# Altium footprint library LPON_OTHER.PcbLib: 107 footprints (part 3 of 7)
Each footprint in its own frame and in the unit in brackets; x right, y up, seen from the top. Pads: shape width x height; smd on the part's side, far side on the other; paste and mask are expansions set on the pad; w line width, h text height; cw(c..) or ccw(c..) is an arc to the next point about the centre after c.
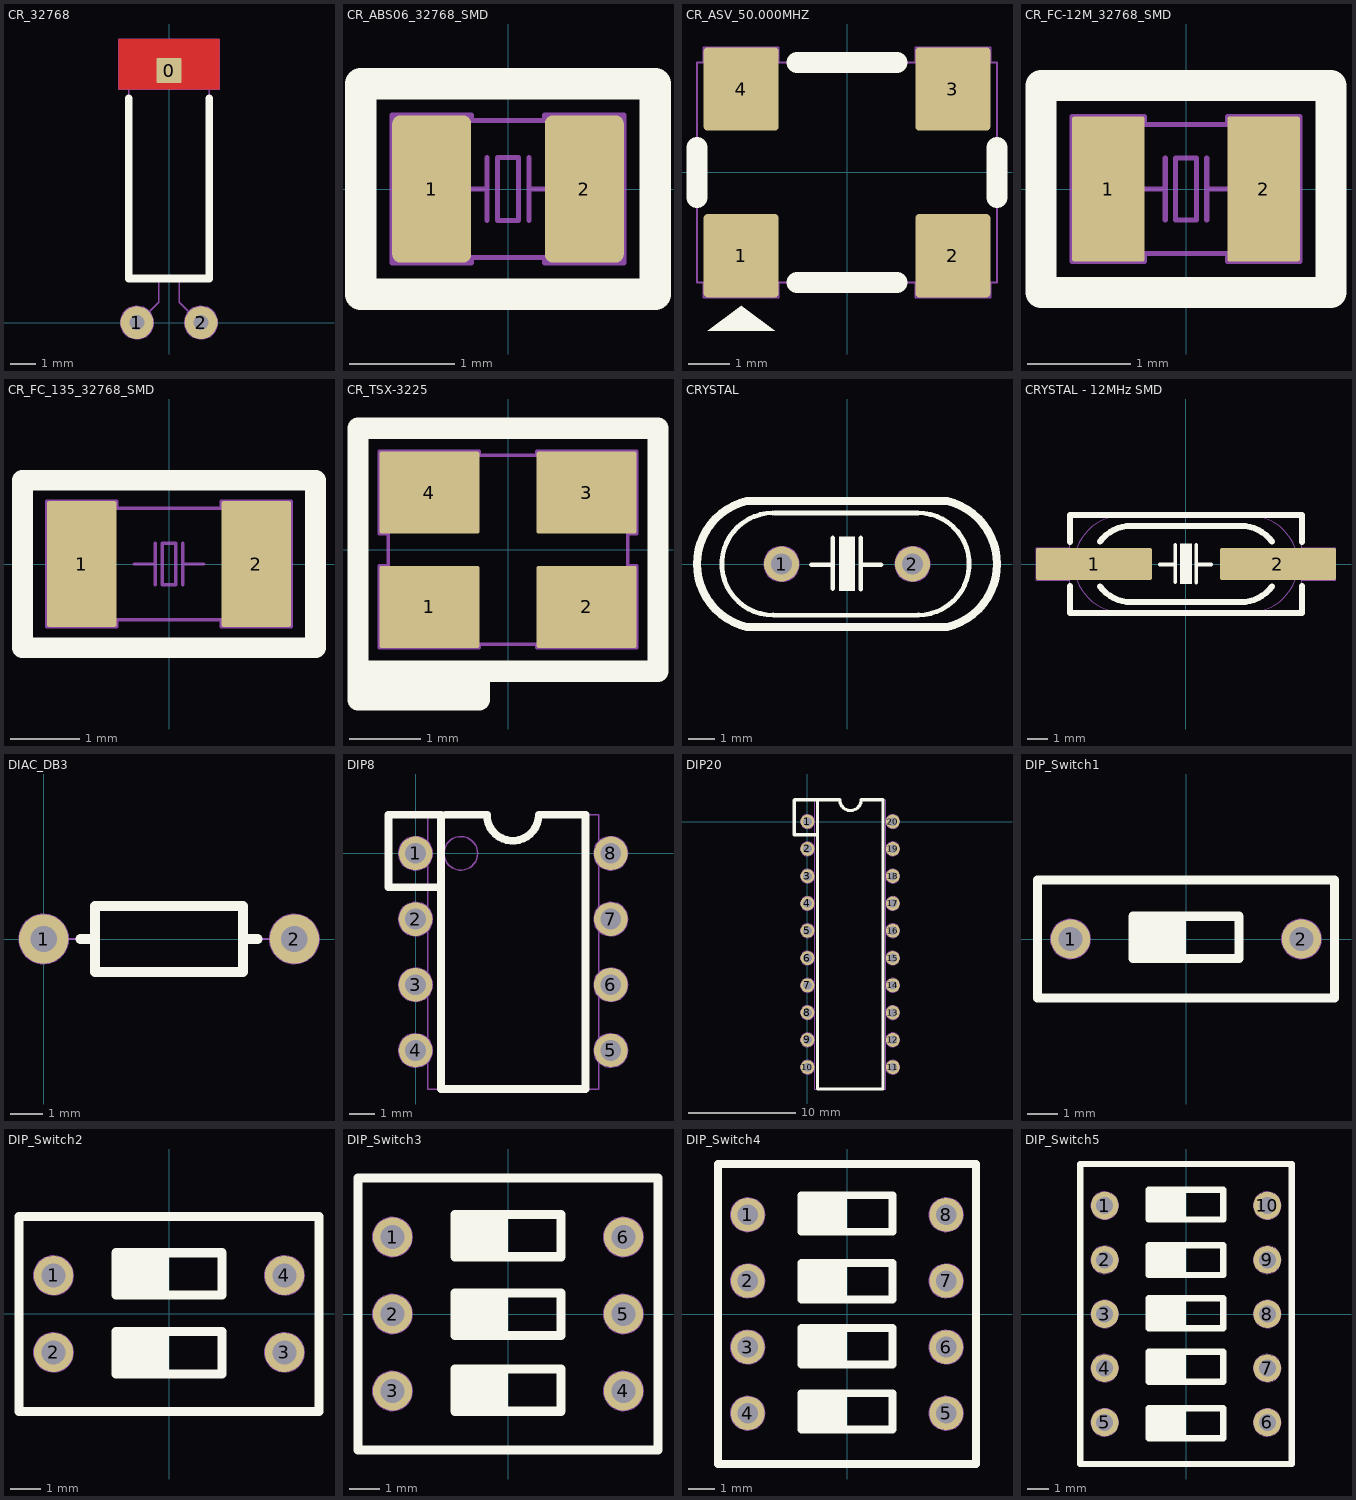
[diagram p2: the footprints below, top view; thin cyan lines are the x and y axes]

## CR_32768 [mm] "32.768 KHz LOW FREQUENCY CYLINDRICALWATCH CRYSTAL"
height 1.5
pads (3):
  rrect10% 1x1 smd mask+0.1: 0(0,10)
  round 1.3 hole 0.6 mask+0.1: 1(-1.27,0) 2(1.27,0)
Top Layer:
  region: -2,9.25 -2,11.25 2,11.25 2,9.25
Top Overlay:
  lines w0.3: -1.59,8.9 -1.59,1.75 1.59,1.75 1.59,8.9
Mechanical 1:
  circle w0.05: c-1.27,0 r0.65
  circle w0.05: c1.27,0 r0.65
  lines w0.05: -0.775,0.425 -0.4,0.8 -0.4,1.75 ; 0.4,1.75 0.4,0.8 0.775,0.425 ; -2,9.25 -2,11.25 2,11.25 2,9.25 -2,9.25 ; -1.59,1.75 1.59,1.75 1.59,10.25 -1.59,10.25 -1.59,1.75
3D body "User Library-Crystal TH.step": height 3.2, standoff 0, extent -1.725,-0.6 1.725,10.175

## CR_ABS06_32768_SMD [mm] "ABS06 32.768 KHz LOW FREQUENCY CYLINDRICALWATCH CRYSTAL"
height 0.6
pads (2):
  rrect20% 0.75x1.4 smd mask+0.1: 1(-0.725,0) 2(0.725,0)
Top Overlay:
  lines w0.3: -1.4,-1 -1.4,1 1.4,1 1.4,-1 -1.4,-1
Mechanical 1:
  lines w0.05: -0.35,-0.65 -0.35,-0.7 -1.1,-0.7 -1.1,0.7 -0.35,0.7 -0.35,0.65 ; -0.35,0 -0.2,0 ; -0.2,-0.3 -0.2,0.3 ; 0.2,-0.3 0.2,0.3 ; 0.2,0 0.35,0 ; 0.35,-0.65 0.35,-0.7 1.1,-0.7 1.1,0.7 0.35,0.7 0.35,0.65 ; 0.1,-0.3 -0.1,-0.3 -0.1,0.3 0.1,0.3 ; 0.1,-0.3 0.1,0.3 ; 0.1,-0.3 0.1,0.3 ; -1.075,-0.65 1.075,-0.65 1.075,0.65 -1.075,0.65 -1.075,-0.65
  text "Y?" at 0,0 h1

## CR_ASV_50.000MHZ [mm] "50MHz XO (Standard) HCMOS Oscillator 3.3V Enable/Disable 4-SMD, No Lead"
height 1.8
pads (4):
  rrect10% 1.8x2 smd: 1(-2.54,-2) 2(2.54,-2) 3(2.54,2) 4(-2.54,2)
Top Overlay:
  region: -2.54,-3.2 -3.34,-3.8 -1.74,-3.8
  region: -2.64,-3.2
  region: -2.54,-3.3
  lines w0.5: -3.6,-0.6 -3.6,0.6 ; -1.2,-2.64 1.2,-2.64 ; -1.2,2.64 1.2,2.64 ; 3.6,-0.6 3.6,0.6
Mechanical 2:
  region: -3,-2.3 -3.06,-2.3 -3.17,-2.254 -3.254,-2.17 -3.3,-2.06 -3.3,-2 -3.3,-1.94 -3.254,-1.83 -3.17,-1.746 -3.06,-1.7 -3,-1.7 -2.94,-1.7 -2.83,-1.746 -2.746,-1.83 -2.7,-1.94 -2.7,-2 -2.7,-2.06 -2.746,-2.17 -2.83,-2.254 -2.94,-2.3
  lines w0.05: -3.439,-2.641 -3.439,-3 -2.688,-3 -1.641,-3 -1.641,-2.644 ; -3.439,2.644 -3.439,3 -2.392,3 -1.641,3 -1.641,2.641 ; 1.641,-2.641 1.641,-3 2.392,-3 3.439,-3 3.439,-2.644 ; 1.641,2.644 1.641,3 2.688,3 3.439,3 3.439,2.641 ; -3.6,-2.64 -3.6,2.64 3.6,2.64 3.6,-2.64 -3.6,-2.64
  text "EN" at -2.392,-2 h1
  text "GND" at 0.5,-2 h1
  text "OUT" at 1,1.5 h1
  text "VDD" at -3,1.5 h1
3D body "User Library-ASV_series _ABRACON.step": height 1.8, standoff 0, extent -3.5,-2.5 3.5,2.58

## CR_FC-12M_32768_SMD [mm] "FC-12M 32.768 KHz"
height 0.6
pads (2):
  rrect5% 0.7x1.4 smd mask+0.1: 1(-0.75,0) 2(0.75,0)
Top Overlay:
  lines w0.3: -1.4,-1 -1.4,1 1.4,1 1.4,-1 -1.4,-1
Mechanical 1:
  lines w0.05: -0.5,0 -0.2,0 ; -0.4,-0.625 -0.4,-0.7 -1.1,-0.7 -1.1,0.7 -0.4,0.7 -0.4,0.625 ; -0.2,-0.3 -0.2,0.3 ; 0.2,-0.3 0.2,0.3 ; 0.2,0 0.5,0 ; 0.4,-0.625 0.4,-0.7 1.1,-0.7 1.1,0.7 0.4,0.7 0.4,0.625 ; 0.1,-0.3 -0.1,-0.3 -0.1,0.3 0.1,0.3 ; 0.1,-0.3 0.1,0.3 ; 0.1,-0.3 0.1,0.3 ; -1.05,-0.625 1.05,-0.625 1.05,0.625 -1.05,0.625 -1.05,-0.625
  text "Y?" at 0,0 h1

## CR_FC_135_32768_SMD [mm] "FC-135 32KHz-100KHz"
height 0.9
pads (2):
  rrect5% 1x1.8 smd mask+0.1: 1(-1.25,0) 2(1.25,0)
Top Overlay:
  lines w0.3: -2.1,-1.2 2.1,-1.2 2.1,1.2 -2.1,1.2 -2.1,-1.2
Mechanical 1:
  lines w0.05: -0.75,-0.8 -0.75,-0.9 -1.75,-0.9 -1.75,0.9 -0.75,0.9 -0.75,0.8 ; -0.5,0 -0.2,0 ; -0.2,-0.3 -0.2,0.3 ; 0.2,-0.3 0.2,0.3 ; 0.2,0 0.5,0 ; 0.75,-0.8 0.75,-0.9 1.75,-0.9 1.75,0.9 0.75,0.9 0.75,0.8 ; 0.1,-0.3 -0.1,-0.3 -0.1,0.3 0.1,0.3 ; 0.1,-0.3 0.1,0.3 ; 0.1,-0.3 0.1,0.3 ; -1.65,-0.8 -1.65,0.8 1.65,0.8 1.65,-0.8 -1.65,-0.8
  text "Y?" at 0,0 h1

## CR_TSX-3225 [mm] "SMD, 4-Leads, 16MHz-48MHz, Body 2.65x3.35mm, Height 0.6mm"
height 0.6
pads (4):
  rrect5% 1.4x1.15 smd: 1(-1.1,-0.8) 2(1.1,-0.8) 3(1.1,0.8) 4(-1.1,0.8)
Top Overlay:
  lines w0.3: -2.1,-1.9 -2.1,-2.1 -0.4,-2.1 -0.4,-1.7 -0.4,-1.9 -2.1,-1.9 ; -2.1,-1.9 -2.1,-1.7 ; -2.1,-1.7 -2.1,1.7 2.1,1.7 2.1,-1.7 -2.1,-1.7
Mechanical 1:
  circle w0.05: c-1.22,-0.9 r0.2
  lines w0.05: -1.69,-0.225 -1.8,-0.225 -1.8,-1.375 -0.4,-1.375 -0.4,-1.33 ; -1.68,0.225 -1.8,0.225 -1.8,1.375 -0.4,1.375 -0.4,1.325 ; 0.4,-1.33 0.4,-1.375 1.8,-1.375 1.8,-0.225 1.68,-0.225 ; 0.4,1.325 0.4,1.375 1.8,1.375 1.8,0.225 1.68,0.225 ; -1.675,-1.325 -1.675,1.325 1.675,1.325 1.675,-1.325 -1.675,-1.325
  text "Y?" at 0,0 h0.8
  text "1" at -0.8,-0.8 h0.5
  text "2" at 0.7,-0.8 h0.5
  text "3" at 0.7,0.5 h0.5
  text "4" at -1,0.5 h0.5
3D body: height 0.4, standoff 0.2, extent -1.65,-1.301 1.65,1.3
3D body: height 0.6, standoff 0.4, extent -1.449,-1.099 1.449,1.099
3D body: height 0.2, standoff 0, extent -1.675,-1.325 1.675,1.325
3D body: height 0.61, standoff 0.3, extent -1.199,-0.899 -0.801,-0.501

## CRYSTAL [mm] "Quartz Crystal, Thru-Hole; 2 Leads; Body 11.35 x 4.65 x 13.46 mm (LxWxH max)"
height 3.5
pads (2):
  round 1.3 hole 0.8 mask+0.1: 1(-2.44,0) 2(2.44,0)
Top Overlay:
  region: 0.292,1.016 0.292,-0.991 -0.292,-0.991 -0.292,1.016
  lines w0.178: -2.769,1.905 ccw(c-2.756,0) -2.75,-1.905 ; -2.717,-1.905 2.617,-1.905 ; -2.692,1.905 2.642,1.905 ; -1.321,-0.025 -0.533,-0.025 ; -0.533,-0.914 -0.533,0.965 ; 0.508,-0.94 0.508,0.965 ; 0.508,-0.025 1.27,-0.025 ; 2.642,1.905 cw(c2.647,0) 2.66,-1.905
  lines w0.3: -3.733,-2.35 3.733,-2.35 ; -3.733,-2.348 cw(c-3.175,0) -3.733,2.348 ; -3.733,2.35 3.733,2.35 ; 3.733,-2.348 ccw(c3.175,0) 3.733,2.348
Mechanical 1:
  circle w0.05: c2.44,0 r0.65
  circle w0.05: c-2.44,0 r0.65
  lines w0.05: -3.733,-2.35 3.733,-2.35 ; -3.733,-2.348 cw(c-3.175,0) -3.733,2.348 ; -3.733,2.35 3.733,2.35 ; 3.733,-2.348 ccw(c3.175,0) 3.733,2.348
3D body "HC49S.STEP": height 3.6, standoff -3, extent -5.49,-2.245 5.49,2.246

## CRYSTAL - 12MHz SMD [mm] "12Mhz 49S SMD"
height 4.3
pads (2):
  rrect10% 5.8x1.6 smd mask+0.1: 1(-4.6,0) 2(4.6,0)
Top Overlay:
  region: 0.292,1.016 0.292,-0.991 -0.292,-0.991 -0.292,1.016
  lines w0.178: -1.321,-0.025 -0.533,-0.025 ; -0.533,-0.914 -0.533,0.965 ; 0.508,-0.94 0.508,0.965 ; 0.508,-0.025 1.27,-0.025
  lines w0.3: -5.8,-1.1 -5.8,-2.45 5.8,-2.45 5.8,-1.1 ; -5.8,1.1 -5.8,2.45 5.8,2.45 5.8,1.1 ; -4.295,-1.123 ccw(c-2.756,0) -2.75,-1.905 2.75,-1.905 ccw(c2.756,0) 4.295,-1.123 ; -4.295,1.123 cw(c-2.756,0) -2.75,1.905 2.75,1.905 cw(c2.756,0) 4.295,1.123
Mechanical 1:
  lines w0.05: -5.8,-0.8 -7.5,-0.8 -7.5,0.8 -5.8,0.8 ; -3.733,-2.35 3.733,-2.35 ; -3.733,-2.348 cw(c-3.175,0) -3.733,2.348 ; -3.733,2.35 3.733,2.35 ; 3.733,-2.348 ccw(c3.175,0) 3.733,2.348 ; 5.8,-0.8 7.5,-0.8 7.5,0.8 5.8,0.8 ; -5.8,-2.45 -5.8,2.45 5.8,2.45 5.8,-2.45 -5.8,-2.45

## DIAC_DB3 [mm] "DB3 2A 32V"
height 2
pads (2):
  round 1.5 hole 0.8: 1(0,0) 2(7.62,0)
Top Overlay:
  lines w0.3: 1.11,0 1.56,0 ; 6.06,0 6.51,0 ; 1.56,-1 6.06,-1 6.06,1 1.56,1 1.56,-1
Mechanical 1:
  circle w0.05: c0,0 r0.75
  circle w0.05: c7.62,0 r0.75
  lines w0.05: 0.75,0 1.56,0 ; 6.06,0 6.87,0 ; 1.56,-1 6.06,-1 6.06,1 1.56,1 1.56,-1
3D body "SW3dPS-1N4148.STEP": height 1.56, standoff -1.27, extent 1.054,-0.82 6.566,0.83

## DIP8 [mm] "PDIP 8Pins, 2.54mm"
height 5.08
pads (8):
  round 1.3 hole 0.8: 1(0,0) 2(0,-2.54) 3(0,-5.08) 4(0,-7.62) 5(7.55,-7.62) 6(7.55,-5.08) 7(7.55,-2.54) 8(7.55,0)
Top Overlay:
  lines w0.3: 0.981,-1.31 -1.051,-1.31 -1.051,1.49 0.981,1.49 0.981,-9.11 6.569,-9.11 6.569,1.49 4.759,1.49 cw(c3.759,1.49) 2.759,1.49 1.175,1.49
Mechanical 1:
  circle w0.05: c7.55,0 r0.65
  circle w0.05: c7.55,-2.54 r0.65
  circle w0.05: c7.55,-5.08 r0.65
  circle w0.05: c7.55,-7.62 r0.65
  circle w0.05: c0,-7.62 r0.65
  circle w0.05: c0,-5.08 r0.65
  circle w0.05: c0,-2.54 r0.65
  circle w0.05: c0,0 r0.65
  circle w0.05: c1.751,0 r0.65
  lines w0.05: 0.475,-8.077 0.475,-9.11 7.075,-9.11 7.075,-8.077 ; 0.475,-7.163 0.475,-5.512 ; 0.475,-4.623 0.475,-2.997 ; 0.475,-2.11 0.475,-0.457 ; 0.475,0.457 0.475,1.49 2.759,1.49 ccw(c3.759,1.49) 4.759,1.49 7.075,1.49 7.075,0.432 ; 7.075,-7.188 7.075,-5.51 ; 7.075,-4.648 7.075,-2.972 ; 7.075,-2.086 7.075,-0.457
  text "4" at 0.981,-8.128 h1.2
  text "5" at 6.275,-8.128 h1.2
  text "8" at 6.275,-0.508 h1.2

## DIP20 [mm]
pads (20):
  round 1.3 hole 0.8: 1(0,0) 2(0,-2.54) 3(0,-5.08) 4(0,-7.62) 5(0,-10.16) 6(0,-12.7) 7(0,-15.24) 8(0,-17.78) 9(0,-20.32) 10(0,-22.86) 11(7.94,-22.86) 12(7.94,-20.32) 13(7.94,-17.78) 14(7.94,-15.24) 15(7.94,-12.7) 16(7.94,-10.16) 17(7.94,-7.62) 18(7.94,-5.08) 19(7.94,-2.54) 20(7.94,0)
Top Overlay:
  lines w0.3: 0.922,-1.23 -1.23,-1.23 -1.23,1.99 -1.19,2.03 0.922,2.03 ; 0.922,2.03 3.005,2.03 ccw(c4.005,2.03) 5.005,2.03 7.018,2.03 7.018,-24.89 0.922,-24.89 0.922,2.03
Mechanical 1:
  circle w0.05: c7.94,0 r0.65
  circle w0.05: c7.94,-2.54 r0.65
  circle w0.05: c7.94,-5.08 r0.65
  circle w0.05: c7.94,-7.62 r0.65
  circle w0.05: c7.94,-10.16 r0.65
  circle w0.05: c7.94,-12.7 r0.65
  circle w0.05: c7.94,-15.24 r0.65
  circle w0.05: c7.94,-17.78 r0.65
  circle w0.05: c7.94,-20.32 r0.65
  circle w0.05: c7.94,-22.86 r0.65
  circle w0.05: c0,-22.86 r0.65
  circle w0.05: c0,-20.32 r0.65
  circle w0.05: c0,-17.78 r0.65
  circle w0.05: c0,-15.24 r0.65
  circle w0.05: c0,-12.7 r0.65
  circle w0.05: c0,-10.16 r0.65
  circle w0.05: c0,-7.62 r0.65
  circle w0.05: c0,-5.08 r0.65
  circle w0.05: c0,-2.54 r0.65
  circle w0.05: c0,0 r0.65
  lines w0.05: 0.67,-24.89 0.67,2.03 3.005,2.03 ccw(c4.005,2.03) 5.005,2.03 7.27,2.03 7.27,-24.89 0.67,-24.89
  text "20" at 6.002,-0.254 h1.2
  text "11" at 6.002,-23.368 h1.2
  text "10" at 0.922,-23.368 h1.2
  text "1" at 1.17,-0.254 h1.2

## DIP_Switch1 [mm] "DIP Switch 2pin, 2.54mm"
height 6
pads (2):
  round 1.3 hole 0.8: 1(-3.81,0) 2(3.81,0)
Top Overlay:
  rectangle: -1.75,-0.65 -0.15,0.75
  lines w0.3: -0.15,-0.65 -0.15,0.75 ; -4.9,-1.95 -4.9,1.95 4.9,1.95 4.9,-1.95 -4.9,-1.95 ; -1.75,-0.65 -1.75,0.75 1.75,0.75 1.75,-0.65 -1.75,-0.65
Mechanical 1:
  circle w0.05: c-3.81,0 r0.65
  circle w0.05: c3.81,0 r0.65
  rectangle: -1.75,-0.65 0,0.75
  lines w0.05: -0.15,-0.65 -0.15,0.75 ; 4.94,-1.95 -4.95,-1.95 -4.95,1.95 4.95,1.95 4.95,-1.95 ; -1.75,-0.65 1.75,-0.65 1.75,0.75 -1.75,0.75 -1.75,-0.65
  text "1" at -2.8,-0.37 h1.2
  text "2" at 2.4,-0.37 h1.2
  text "OFF" at -3.302,1.016 h1.2
  text "ON" at 1.778,1.016 h1.2
3D body "User Library-dips sith 1.step": height 6.83, standoff -2.64, extent -4.875,-1.9 4.875,1.925

## DIP_Switch2 [mm] "DIP Switch 4pin, 2.54mm"
height 6
pads (4):
  round 1.3 hole 0.8: 1(-3.81,1.27) 2(-3.81,-1.27) 3(3.81,-1.27) 4(3.81,1.27)
Top Overlay:
  rectangle: -1.75,-1.98 -0.15,-0.58
  rectangle: -1.75,0.62 -0.15,2.02
  lines w0.3: -0.15,-1.98 -0.15,-0.58 ; -0.15,0.62 -0.15,2.02 ; -4.95,-3.22 -4.95,3.22 4.95,3.22 4.95,-3.22 -4.95,-3.22 ; -1.75,-1.98 -1.75,-0.58 1.75,-0.58 1.75,-1.98 -1.75,-1.98 ; -1.75,0.62 1.75,0.62 1.75,2.02 -1.75,2.02 -1.75,0.62
Mechanical 1:
  circle w0.05: c3.81,1.27 r0.65
  circle w0.05: c3.81,-1.27 r0.65
  circle w0.05: c-3.81,-1.27 r0.65
  circle w0.05: c-3.81,1.27 r0.65
  rectangle: -1.75,0.62 0,2.02
  rectangle: -1.75,-1.98 0,-0.58
  lines w0.05: -0.15,-1.98 -0.15,-0.58 ; -0.15,0.62 -0.15,2.02 ; -4.95,-3.225 -4.95,3.22 4.95,3.22 4.95,-3.225 -4.95,-3.225 ; -1.75,-1.98 1.75,-1.98 1.75,-0.58 -1.75,-0.58 -1.75,-1.98 ; -1.75,0.62 -1.75,2.02 1.75,2.02 1.75,0.62 -1.75,0.62
  text "ON" at 1.778,2.286 h1.2
  text "OFF" at -3.302,2.286 h1.2
  text "4" at 2.54,1.016 h1.2
  text "3" at 2.54,-1.524 h1.2
  text "2" at -3.048,-1.524 h1.2
  text "1" at -2.794,0.762 h1.2

## DIP_Switch3 [mm] "DIP Switch 6pin, 2.54mm"
height 6
pads (6):
  round 1.3 hole 0.8: 1(-3.81,2.54) 2(-3.81,0) 3(-3.81,-2.54) 4(3.81,-2.54) 5(3.81,0) 6(3.81,2.54)
Top Overlay:
  rectangle: -1.75,-3.21 -0.15,-1.81
  rectangle: -1.75,-0.71 -0.15,0.69
  rectangle: -1.75,1.89 -0.15,3.29
  lines w0.3: -0.15,-3.21 -0.15,-1.81 ; -0.15,-0.71 -0.15,0.69 ; -0.15,1.89 -0.15,3.29 ; -4.95,-4.49 4.95,-4.49 4.95,4.49 -4.95,4.49 -4.95,-4.49 ; -1.75,-3.21 -1.75,-1.81 1.75,-1.81 1.75,-3.21 -1.75,-3.21 ; -1.75,-0.71 -1.75,0.69 1.75,0.69 1.75,-0.71 -1.75,-0.71 ; -1.75,1.89 1.75,1.89 1.75,3.29 -1.75,3.29 -1.75,1.89
Mechanical 1:
  circle w0.05: c3.81,2.54 r0.65
  circle w0.05: c3.81,0 r0.65
  circle w0.05: c3.81,-2.54 r0.65
  circle w0.05: c-3.81,-2.54 r0.65
  circle w0.05: c-3.81,0 r0.65
  circle w0.05: c-3.81,2.54 r0.65
  rectangle: -1.75,1.89 0,3.29
  rectangle: -1.75,-0.71 0,0.69
  rectangle: -1.75,-3.21 0,-1.81
  lines w0.05: -0.15,-3.21 -0.15,-1.81 ; -0.15,-0.71 -0.15,0.69 ; -0.15,1.89 -0.15,3.29 ; -4.95,-4.49 -4.95,4.49 4.95,4.49 4.95,-4.49 -4.95,-4.49 ; -1.75,-3.21 1.75,-3.21 1.75,-1.81 -1.75,-1.81 -1.75,-3.21 ; -1.75,-0.71 1.75,-0.71 1.75,0.69 -1.75,0.69 -1.75,-0.71 ; -1.75,1.89 -1.75,3.29 1.75,3.29 1.75,1.89 -1.75,1.89
  text "OFF" at -3.302,3.556 h1.2
  text "ON" at 1.778,3.556 h1.2
  text "1" at -3.048,2.286 h1.2
  text "3" at -3.048,-3.048 h1.2
  text "4" at 2.54,-3.048 h1.2
  text "6" at 2.54,2.286 h1.2

## DIP_Switch4 [mm] "DIP Switch 8 pin, 2.54mm"
height 6
pads (8):
  round 1.3 hole 0.8: 1(-3.81,3.81) 2(-3.81,1.27) 3(-3.81,-1.27) 4(-3.81,-3.81) 5(3.81,-3.81) 6(3.81,-1.27) 7(3.81,1.27) 8(3.81,3.81)
Top Overlay:
  rectangle: -1.75,3.16 -0.15,4.56
  rectangle: -1.75,0.56 -0.15,1.96
  rectangle: -1.75,-1.94 -0.15,-0.54
  rectangle: -1.75,-4.44 -0.15,-3.04
  lines w0.3: -0.15,-4.44 -0.15,-3.04 ; -0.15,-1.94 -0.15,-0.54 ; -0.15,0.56 -0.15,1.96 ; -0.15,3.16 -0.15,4.56 ; -4.95,-5.76 -4.95,5.76 4.95,5.76 4.95,-5.76 -4.95,-5.76 ; -1.75,-4.44 1.75,-4.44 1.75,-3.04 -1.75,-3.04 -1.75,-4.44 ; -1.75,-1.94 1.75,-1.94 1.75,-0.54 -1.75,-0.54 -1.75,-1.94 ; -1.75,0.56 1.75,0.56 1.75,1.96 -1.75,1.96 -1.75,0.56 ; -1.75,3.16 -1.75,4.56 1.75,4.56 1.75,3.16 -1.75,3.16
Mechanical 1:
  circle w0.05: c-3.81,3.81 r0.65
  circle w0.05: c-3.81,1.27 r0.65
  circle w0.05: c-3.81,-1.27 r0.65
  circle w0.05: c-3.81,-3.81 r0.65
  circle w0.05: c3.81,-3.81 r0.65
  circle w0.05: c3.81,-1.27 r0.65
  circle w0.05: c3.81,1.27 r0.65
  circle w0.05: c3.81,3.81 r0.65
  rectangle: -1.75,-4.44 -0.15,-3.04
  rectangle: -1.75,-1.94 -0.15,-0.54
  rectangle: -1.75,0.56 -0.15,1.96
  rectangle: -1.75,3.16 -0.15,4.56
  lines w0.05: -0.15,-4.44 -0.15,-3.04 ; -0.15,-1.94 -0.15,-0.54 ; -0.15,0.56 -0.15,1.96 ; -0.15,3.16 -0.15,4.56 ; -4.95,-5.76 4.95,-5.76 4.95,5.76 -4.95,5.76 -4.95,-5.76 ; -1.75,-4.44 -1.75,-3.04 1.75,-3.04 1.75,-4.44 -1.75,-4.44 ; -1.75,-1.94 -1.75,-0.54 1.75,-0.54 1.75,-1.94 -1.75,-1.94 ; -1.75,0.56 -1.75,1.96 1.75,1.96 1.75,0.56 -1.75,0.56 ; -1.75,3.16 1.75,3.16 1.75,4.56 -1.75,4.56 -1.75,3.16
  text "ON" at 2.1,4.6 h1.2
  text "OFF" at -3.9,4.6 h1.2
  text "1" at -2.9,3.3 h1.2
  text "4" at -3,-4.3 h1.2
  text "5" at 2.3,-4.4 h1.2
  text "8" at 2.3,3.3 h1.2
3D body: height 6, standoff 0, extent -4.949,-5.76 4.949,5.759

## DIP_Switch5 [mm] "DIP Switch 10 pin, 2.54mm"
height 6
pads (10):
  round 1.3 hole 0.8: 1(-3.81,5.08) 2(-3.81,2.54) 3(-3.81,0) 4(-3.81,-2.54) 5(-3.81,-5.08) 6(3.81,-5.08) 7(3.81,-2.54) 8(3.81,0) 9(3.81,2.54) 10(3.81,5.08)
Top Overlay:
  rectangle: -1.75,4.43 -0.15,5.83
  rectangle: -1.75,1.83 -0.15,3.23
  rectangle: -1.75,-0.67 -0.15,0.73
  rectangle: -1.75,-3.17 -0.15,-1.77
  rectangle: -1.75,-5.82 -0.15,-4.42
  lines w0.3: -0.15,-5.82 -0.15,-4.42 ; -0.15,-3.17 -0.15,-1.77 ; -0.15,-0.67 -0.15,0.73 ; -0.15,1.83 -0.15,3.23 ; -0.15,4.43 -0.15,5.83 ; -4.95,-7.03 -4.95,7.03 4.95,7.03 4.95,-7.03 -4.95,-7.03 ; -1.75,-5.82 1.75,-5.82 1.75,-4.42 -1.75,-4.42 -1.75,-5.82 ; -1.75,-3.17 1.75,-3.17 1.75,-1.77 -1.75,-1.77 -1.75,-3.17 ; -1.75,-0.67 1.75,-0.67 1.75,0.73 -1.75,0.73 -1.75,-0.67 ; -1.75,1.83 1.75,1.83 1.75,3.23 -1.75,3.23 -1.75,1.83 ; -1.75,4.43 -1.75,5.83 1.75,5.83 1.75,4.43 -1.75,4.43
Mechanical 1:
  circle w0.05: c-3.81,5.08 r0.65
  circle w0.05: c-3.81,2.54 r0.65
  circle w0.05: c-3.81,0 r0.65
  circle w0.05: c-3.81,-2.54 r0.65
  circle w0.05: c-3.81,-5.08 r0.65
  circle w0.05: c3.81,-5.08 r0.65
  circle w0.05: c3.81,-2.54 r0.65
  circle w0.05: c3.81,0 r0.65
  circle w0.05: c3.81,2.54 r0.65
  circle w0.05: c3.81,5.08 r0.65
  rectangle: -1.75,-5.82 -0.15,-4.42
  rectangle: -1.75,-3.17 -0.15,-1.77
  rectangle: -1.75,-0.67 -0.15,0.73
  rectangle: -1.75,1.83 -0.15,3.23
  rectangle: -1.75,4.43 -0.15,5.83
  lines w0.05: -0.15,-5.82 -0.15,-4.42 ; -0.15,-3.17 -0.15,-1.77 ; -0.15,-0.67 -0.15,0.73 ; -0.15,1.83 -0.15,3.23 ; -0.15,4.43 -0.15,5.83 ; -4.95,-7 4.95,-7 4.95,7.03 -4.95,7.03 -4.95,-7 ; -1.75,-5.82 -1.75,-4.42 1.75,-4.42 1.75,-5.82 -1.75,-5.82 ; -1.75,-3.17 -1.75,-1.77 1.75,-1.77 1.75,-3.17 -1.75,-3.17 ; -1.75,-0.67 -1.75,0.73 1.75,0.73 1.75,-0.67 -1.75,-0.67 ; -1.75,1.83 -1.75,3.23 1.75,3.23 1.75,1.83 -1.75,1.83 ; -1.75,4.43 1.75,4.43 1.75,5.83 -1.75,5.83 -1.75,4.43
  text "1" at -2.9,4.6 h1.2
  text "5" at -2.9,-5.5 h1.2
  text "6" at 2.5,-5.5 h1.2
  text "10" at 2,4.5 h1.2
  text "ON" at 2,6 h1.2
  text "OFF" at -3.9,6 h1.2
3D body: height 6, standoff 0, extent -4.949,-7 4.949,7.029